# EAGLE library part SPI_CONNECTOR (library Strawson_Eagle_Lib)
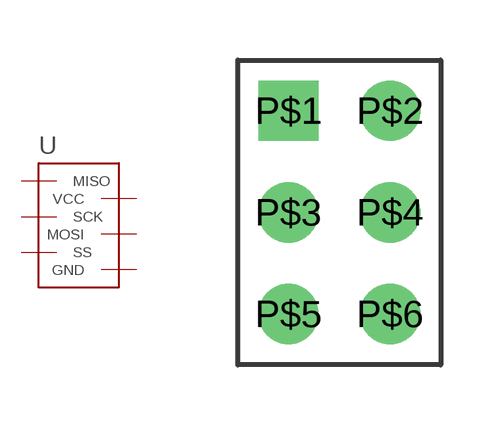
[diagram p0: symbol with the pads of 2X3_0.1"_HEADER; footprint 2X3_0.1"_HEADER]

Designator prefix -

## SPI_CONNECTOR  [2X3_0.1"_HEADER]
P$1  MISO
P$2  VCC
P$3  SCK
P$4  MOSI
P$5  SS
P$6  GND

## Footprint 2X3_0.1"_HEADER (pad centres in mm)
drill 1 square: P$1 0,0
drill 1: P$2 2.54,0; P$3 0,-2.54; P$4 2.54,-2.54; P$5 0,-5.08; P$6 2.54,-5.08